# Altium footprint library PrISUm-Discrete.PcbLib: 29 footprints (part 2 of 2)
Each footprint in its own frame and in the unit in brackets; x right, y up, seen from the top. Pads: shape width x height; smd on the part's side, far side on the other; paste and mask are expansions set on the pad; w line width, h text height; cw(c..) or ccw(c..) is an arc to the next point about the centre after c.
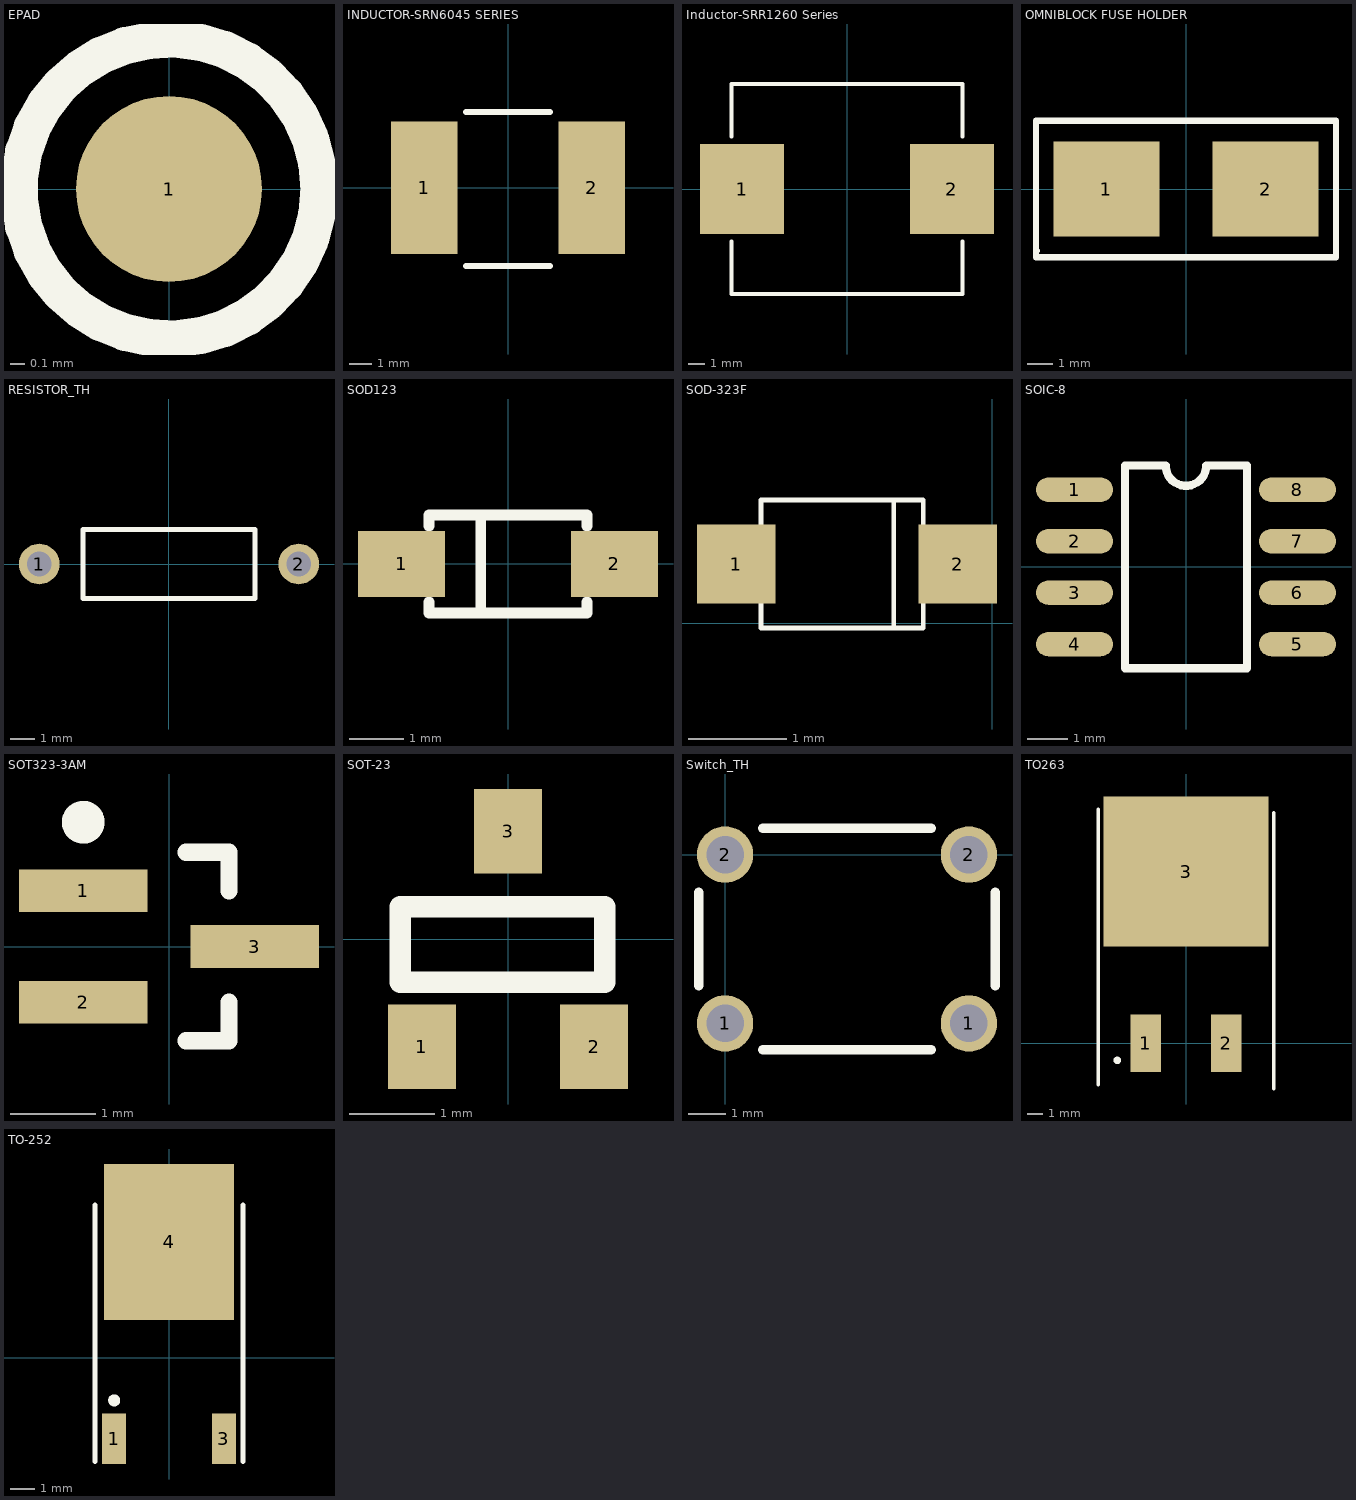
[diagram p1: the footprints below, top view; thin cyan lines are the x and y axes]

## EPAD [mm]
pads (1):
  round 1.27 smd: 1(0,0)
Top Overlay:
  circle w0.254: c0,0 r1.024

## INDUCTOR-SRN6045 SERIES [mm]
height 4.5
pads (2):
  rect 3x6 smd: 1(-3.8,0) 2(3.8,0)
Top Overlay:
  lines w0.254: -1.905,-3.556 1.905,-3.556 ; -1.905,3.429 1.905,3.429
3D body "srn6045.stp": height 4.5, standoff 0, extent -3,-3 3,3

## Inductor-SRR1260 Series [mil]
height 236
pads (2):
  rect 200x215 smd: 1(-250,0) 2(250,0)
Top Overlay:
  lines w10: -275,-125 -275,-250 275,-250 275,-125 ; -275,125 -275,250 275,250 275,125
3D body "srr1260.stp": height 236.22, standoff 0, extent -246.06,-246.06 246.07,246.07

## OMNIBLOCK FUSE HOLDER [mm]
pads (2):
  rect 4.24x3.81 smd: 1(-3.185,0) 2(3.185,0)
Top Overlay:
  lines w0.254: -6,-2.45 -5.975,-2.475 ; -6,-2.725 -6,2.725 6,2.725 6,-2.725 -6,-2.725
3D body "OMNI_BLOK_FUSE.step": height 3.81, standoff 0, extent -4.915,-2.515 4.915,2.515

## RESISTOR_TH [mm]
pads (2):
  round 1.65 hole 1: 1(-5.275,0) 2(5.275,0)
Top Overlay:
  lines w0.2: -3.5,-1.4 3.5,-1.4 3.5,1.4 -3.5,1.4 -3.5,-1.4

## SOD123 [mm] "SOD-123; 2 Leads; Body 2.7 x 1.6 mm, (LxW)"
height 1.35
pads (2):
  rect 1.6x1.22 smd: 1(-1.954,0) 2(1.954,0)
Top Overlay:
  lines w0.2: -1.45,-0.7 -1.45,-0.9 1.45,-0.9 1.45,-0.7 ; -1.45,0.7 -1.45,0.9 1.45,0.9 1.45,0.7 ; -0.5,-0.9 -0.5,0.9

## SOD-323F [mm]
pads (2):
  rect 0.8x0.8 smd: 1(-2.6,0.6) 2(-0.35,0.6)
Top Overlay:
  lines w0.05: -2.35,0.2 -2.35,-0.05 -0.7,-0.05 -0.7,0.2 ; -2.35,1 -2.35,1.25 -0.7,1.25 -0.7,1 ; -1,-0.05 -1,1.25

## SOIC-8 [mm] "SOIC, 8-Leads, Body 5.0x4.0mm (max), Pitch 1.27mm, IPC High Density"
height 1.75
pads (8):
  oval 1.9x0.6 smd: 1(-2.75,1.905) 2(-2.75,0.635) 3(-2.75,-0.635) 4(-2.75,-1.905) 5(2.75,-1.905) 6(2.75,-0.635) 7(2.75,0.635) 8(2.75,1.905)
Top Overlay:
  lines w0.2: -1.5,-2.5 1.5,-2.5 1.5,2.5 0.5,2.5 cw(c0,2.5) -0.5,2.5 -1.5,2.5 -1.5,-2.5
3D body "SOIC-8.stp": height 1.65, standoff -0.01, extent -3,-2.45 3,2.45

## SOT323-3AM [mm] "SOT323, 3-Leads, Body 2.0x1.3mm, Pitch 0.65mm, Lead Span 2.1mm, IPC Low Density"
height 1
pads (3):
  rect 1.5x0.5 smd: 1(-1,0.65) 2(-1,-0.65) 3(1,0)
Top Overlay:
  circle w0.25: c-1,1.45 r0.125
  lines w0.2: 0.2,-1.1 0.7,-1.1 0.7,-0.65 ; 0.2,1.1 0.7,1.1 0.7,0.65
3D body "SC-70.stp": height 1.05, standoff -0.05, extent -1.32,-1.115 1.08,1.085

## SOT-23 [mm]
pads (3):
  rect 0.8x1 smd: 1(-1.016,-1.27) 2(1.016,-1.27) 3(0,1.27)
Top Overlay:
  lines w0.254: -1.27,-0.508 1.143,-0.508 1.143,0.381 -1.27,0.381 -1.27,-0.508
3D body "SOT23.STEP": height 1.18, standoff -0.04, extent -1.5,-1.126 1.5,1.126

## Switch_TH [mm] "B3F-1000"
pads (4):
  round 1.5 hole 1: 1(0,-4.5) 1(6.5,-4.5) 2(0,0) 2(6.5,0)
Top Overlay:
  lines w0.254: -0.7,-3.5 -0.7,-1 ; 1,-5.2 5.5,-5.2 ; 1,0.7 5.5,0.7 ; 7.2,-3.5 7.2,-1
3D body "tactileswitch-short.STEP": height 4.95, standoff -3.38, extent -0.543,-5.29 7.148,0.718

## TO263 [mm]
pads (3):
  rect 2.032x3.81 smd: 1(-2.67,0) 2(2.67,0)
  rect 11x10 smd: 3(0,11.425)
Top Overlay:
  circle w0.25: c-4.572,-1.143 r0.125
  lines w0.2: -5.842,-2.794 -5.842,15.602 ; 5.842,-3.048 5.842,15.348
3D body "TO-263AB.stp": height 4.8, standoff 0, extent -5.436,-0.813 5.207,15.037

## TO-252 [mm] "D-PAK/TO-252-AA; 3 Leads (1 Cropped); Body 10.1 (inc. leads) x 6.6 mm (LxW max)"
height 2.4
pads (3):
  rect 1x2.1 smd: 1(-2.285,-3.375) 3(2.285,-3.375)
  rect 5.4x6.5 smd: 4(0,4.826)
Top Overlay:
  circle w0.25: c-2.285,-1.775 r0.125
  lines w0.2: -3.085,-4.325 -3.085,6.375 ; 3.085,-4.325 3.085,6.375
3D body "TO-252AA.stp": height 2.4, standoff 0, extent -3.334,-3.413 3.343,6.987